# Altium schematic symbol library IR.SchLib: 1 symbol
Pins are listed as number, name and electrical type; pins without a type are passive.

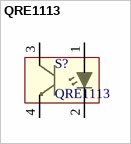
[diagram p0: symbol QRE1113]

## QRE1113
designator S?
footprint QRE1113GR (SOP, 4-Leads, Body 3.40x2.70mm, Pitch 1.80mm, IPC Medium Density)
pins: 1 +, 2 5, 3 +, 4